# Altium footprint library EnvMonitor.PcbLib: 18 footprints (part 1 of 2)
Each footprint in its own frame and in the unit in brackets; x right, y up, seen from the top. Pads: shape width x height; smd on the part's side, far side on the other; paste and mask are expansions set on the pad; w line width, h text height; cw(c..) or ccw(c..) is an arc to the next point about the centre after c.
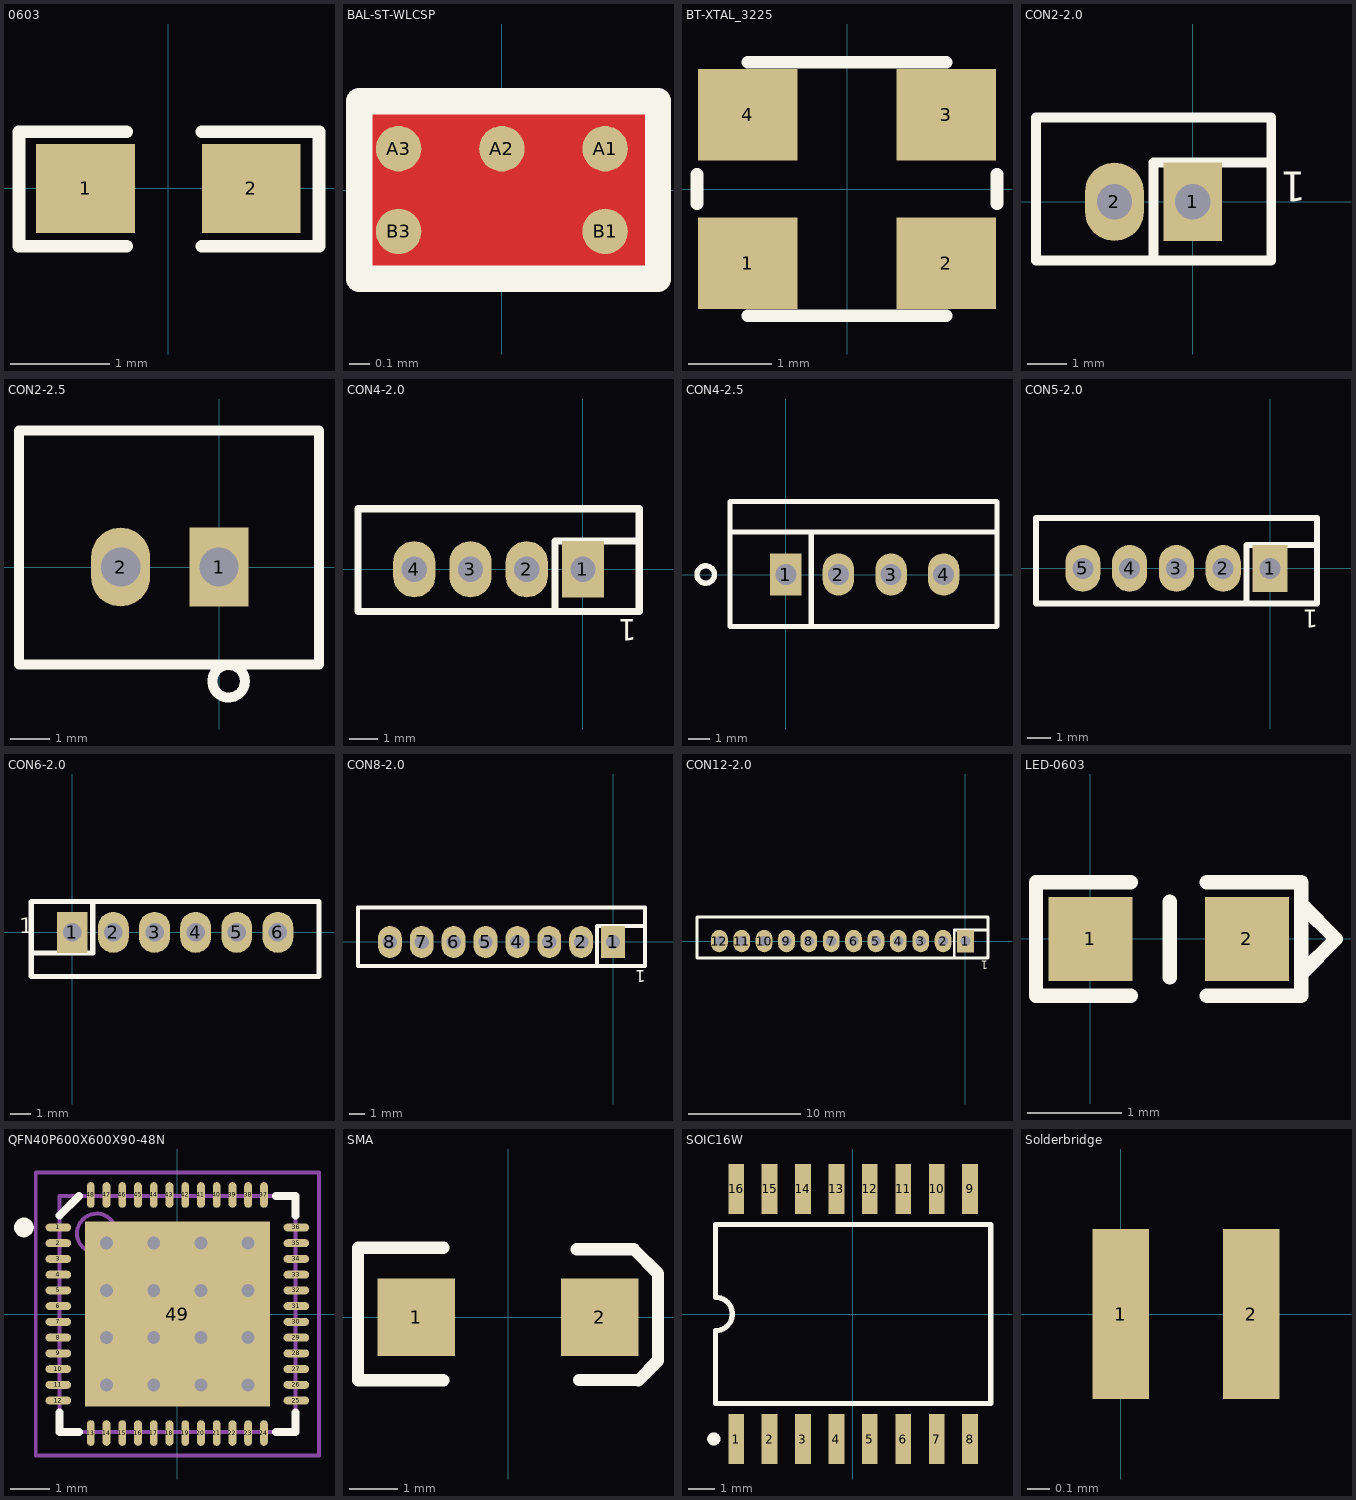
[diagram p0: the footprints below, top view; thin cyan lines are the x and y axes]

## 0603 [mm]
pads (2):
  rect 1x0.9 smd: 1(-0.838,0) 2(0.838,0)
Top Overlay:
  lines w0.127: -0.423,-0.584 -1.511,-0.584 -1.511,0.572 -0.423,0.572 ; 0.339,-0.584 1.524,-0.584 1.524,0.572 0.339,0.572
3D body: height 0.45, standoff 0, extent -0.825,-0.406 0.775,0.394

## BAL-ST-WLCSP [mm]
pads (5):
  round 0.22 smd mask+0.05: A1(0.5,0.2) A2(0,0.2) A3(-0.5,0.2) B1(0.5,-0.2) B3(-0.5,-0.2)
Top Layer:
  pour cut-out: -0.697,-0.43 0.756,-0.43 0.756,0.44 -0.697,0.44
Top Overlay:
  lines w0.127: -0.69,-0.43 0.756,-0.43 0.756,0.43 -0.69,0.43 -0.69,-0.43
3D body: height 0.17, standoff -0.05, extent 0.391,0.091 0.61,0.31
3D body: height 0.17, standoff -0.05, extent -0.609,-0.309 -0.39,-0.09
3D body: height 0.17, standoff -0.05, extent -0.609,0.091 -0.39,0.31
3D body: height 0.17, standoff -0.05, extent 0.391,-0.309 0.61,-0.09
3D body: height 0.17, standoff -0.05, extent -0.109,0.091 0.11,0.31
3D body: height 0.63, standoff 0.51, extent -0.703,-0.43 0.76,0.43
3D body: height 0.51, standoff 0.11, extent -0.69,-0.43 0.759,0.43

## BT-XTAL_3225 [mm] "Mercury X32 series"
height 1
pads (4):
  rect 1.2x1.1 smd: 1(-1.194,-0.89) 2(1.194,-0.89) 3(1.194,0.891) 4(-1.194,0.891)
Top Overlay:
  lines w0.152: -1.803,-0.178 -1.803,0.178 ; -1.194,-1.524 1.194,-1.524 ; -1.194,1.524 1.194,1.524 ; 1.803,-0.178 1.803,0.178
3D body: height 0.81, standoff 0, extent -1.6,-1.25 1.614,1.25
3D body: height 0.81, standoff 0.15, extent -1.4,-1.05 1.4,1.05

## CON2-2.0 [mm]
pads (2):
  rect 1.5x2 hole 0.9: 1(0,0)
  oval 1.5x2 hole 0.9: 2(-2,0)
Top Overlay:
  lines w0.254: -1,-1.5 -1,1 2,1 ; -4,-1.5 2,-1.5 2,2.15 -4,2.15 -4,-1.5
  text "1" at 2.89,0.768 h0.76
3D body: height 5.55, standoff -3.45, extent -4,-1.55 2,2.1

## CON2-2.5 [mm]
pads (2):
  rect 1.5x2 hole 1: 1(0,0)
  oval 1.5x2 hole 1: 2(-2.5,0)
Top Overlay:
  circle w0.254: c0.245,-2.9 r0.415
  lines w0.254: -5.08,-2.47 -5.08,3.47 2.54,3.47 2.54,-2.47 -5.08,-2.47

## CON4-2.0 [mm]
pads (4):
  rect 1.5x2 hole 0.9: 1(0,0)
  oval 1.5x2 hole 0.9: 2(-2,0) 3(-4,0) 4(-6,0)
Top Overlay:
  lines w0.254: -1,-1.5 -1,1 2,1 ; -8,-1.5 0.051,-1.5 2,-1.5 2,2.15 -8,2.15 -8,-1.5
  text "1" at 1.905,-1.778 h0.76
3D body: height 5.55, standoff -3.45, extent -8,-1.525 2,2.125

## CON4-2.5 [mm]
pads (4):
  rect 1.5x2 hole 1: 1(0,0)
  oval 1.5x2 hole 1: 2(2.5,0) 3(5,0) 4(7.5,0)
Top Overlay:
  circle w0.254: c-3.815,0 r0.415
  lines w0.254: -2.66,2.025 10.015,2.025 ; 1.2,-2.42 1.2,2.025 ; -2.66,-2.47 -2.66,3.47 10.04,3.47 10.04,-2.179 10.04,-2.47 -2.66,-2.47

## CON5-2.0 [mm]
pads (5):
  rect 1.5x2 hole 0.9: 1(0,0)
  oval 1.5x2 hole 0.9: 2(-2,0) 3(-4,0) 4(-6,0) 5(-8,0)
Top Overlay:
  lines w0.254: -1,-1.5 -1,1 2,1 ; -10,-1.5 2,-1.5 2,2.15 -10,2.15 -10,-1.5
  text "1" at 2.057,-1.778 h0.76
3D body: height 5.55, standoff -3.45, extent -10,-1.5 2,2.15

## CON6-2.0 [mm]
pads (6):
  rect 1.5x2 hole 0.9: 1(0,0)
  oval 1.5x2 hole 0.9: 2(2,0) 3(4,0) 4(6,0) 5(8,0) 6(10,0)
Top Overlay:
  lines w0.254: -2,-1 1,-1 1,1.5 ; -2,-2.15 12,-2.15 12,1.5 -2,1.5 -2,-2.15
  text "1" at -2.591,-0.051 h0.76
3D body: height 5.55, standoff -3.45, extent -2,-2.2 12,1.5

## CON8-2.0 [mm]
pads (8):
  rect 1.5x2 hole 0.9: 1(0,0)
  oval 1.5x2 hole 0.9: 2(-2,0) 3(-4,0) 4(-6,0) 5(-8,0) 6(-10,0) 7(-12,0) 8(-14,0)
Top Overlay:
  lines w0.254: -1,-1.5 -1,1 2,1 ; -16,-1.5 2,-1.5 2,2.15 -16,2.15 -16,-1.5
  text "1" at 2.057,-1.778 h0.76
3D body: height 5.55, standoff -3.45, extent -16,-1.45 2,2.2

## CON12-2.0 [mm]
pads (12):
  rect 1.5x2 hole 0.9: 1(0,0)
  oval 1.5x2 hole 0.9: 2(-2,0) 3(-4,0) 4(-6,0) 5(-8,0) 6(-10,0) 7(-12,0) 8(-14,0) 9(-16,0) 10(-18,0) 11(-20,0) 12(-22,0)
Top Overlay:
  lines w0.254: -1,-1.5 -1,1 2,1 ; -24,-1.5 2,-1.5 2,2.15 -24,2.15 -24,-1.5
  text "1" at 2.057,-1.778 h0.76
3D body: height 5.55, standoff -3.45, extent -24,-1.5 2,2.15

## LED-0603 [mil] "140705"
pads (2):
  rect 35x35 smd: 1(0,0) 2(65,0)
Top Overlay:
  lines w6: 16.75,-23.62 -22.62,-23.62 -22.62,23.62 16.75,23.62 ; 33,-16 33,15.5 ; 48.24,-23.62 87.61,-23.62 87.61,23.62 48.24,23.62 ; 88,-14 102,0 88,14

## QFN40P600X600X90-48N [mm] "QFN, 48-Leads, Body 6,0x6,0mm (max), Pitch 0,40mm, IPC Medium Density"
height 0.9
pads (49):
  oval 0.65x0.2 smd: 1(-3.025,2.2) 2(-3.025,1.8) 3(-3.025,1.4) 4(-3.025,1) 5(-3.025,0.6) 6(-3.025,0.2) 7(-3.025,-0.2) 8(-3.025,-0.6) 9(-3.025,-1) 10(-3.025,-1.4) 11(-3.025,-1.8) 12(-3.025,-2.2) 25(3.025,-2.2) 26(3.025,-1.8) 27(3.025,-1.4) 28(3.025,-1) 29(3.025,-0.6) 30(3.025,-0.2) 31(3.025,0.2) 32(3.025,0.6) 33(3.025,1) 34(3.025,1.4) 35(3.025,1.8) 36(3.025,2.2)
  oval 0.2x0.65 smd: 13(-2.2,-3.025) 14(-1.8,-3.025) 15(-1.4,-3.025) 16(-1,-3.025) 17(-0.6,-3.025) 18(-0.2,-3.025) 19(0.2,-3.025) 20(0.6,-3.025) 21(1,-3.025) 22(1.4,-3.025) 23(1.8,-3.025) 24(2.2,-3.025) 37(2.2,3.025) 38(1.8,3.025) 39(1.4,3.025) 40(1,3.025) 41(0.6,3.025) 42(0.2,3.025) 43(-0.2,3.025) 44(-0.6,3.025) 45(-1,3.025) 46(-1.4,3.025) 47(-1.8,3.025) 48(-2.2,3.025)
  rect 4.7x4.7 smd: 49(0,0)
via -1.8,1.8 diameter 0.66 hole 0.33
via -0.6,1.8 diameter 0.66 hole 0.33
via 0.6,1.8 diameter 0.66 hole 0.33
via 1.8,1.8 diameter 0.66 hole 0.33
via -1.8,0.6 diameter 0.66 hole 0.33
via -0.6,0.6 diameter 0.66 hole 0.33
via 0.6,0.6 diameter 0.66 hole 0.33
via 1.8,0.6 diameter 0.66 hole 0.33
via -1.8,-0.6 diameter 0.66 hole 0.33
via -0.6,-0.6 diameter 0.66 hole 0.33
via 0.6,-0.6 diameter 0.66 hole 0.33
via 1.8,-0.6 diameter 0.66 hole 0.33
via -1.8,-1.8 diameter 0.66 hole 0.33
via -0.6,-1.8 diameter 0.66 hole 0.33
via 0.6,-1.8 diameter 0.66 hole 0.33
via 1.8,-1.8 diameter 0.66 hole 0.33
Top Overlay:
  circle w0.25: c-3.9,2.2 r0.125
  lines w0.2: -3,-2.5 -3,-3 -2.5,-3 ; -3,2.5 -2.5,3 ; 2.5,-3 3,-3 3,-2.5 ; 2.5,3 3,3 3,2.5
Mechanical 13:
  circle w0.1: c-2.05,2.05 r0.5
  lines w0.1: -3,-3 -3,3 3,3 3,-3 -3,-3
Mechanical 15:
  lines w0.1: -0.5,0 0.5,0 ; 0,-0.5 0,0.5 ; -3.6,-3.6 -3.6,3.6 3.6,3.6 3.6,-3.6 -3.6,-3.6
3D body: height 0.9, standoff 0, extent -3,-3 3,3

## SMA [mm]
pads (2):
  rect 1.6x1.6 smd: 1(-1.9,0) 2(1.9,0)
Top Overlay:
  lines w0.254: -1.332,-1.308 -3.1,-1.308 -3.1,1.435 -1.332,1.435 ; 1.42,1.4 2.6,1.4 3.1,0.9 3.1,-0.9 2.694,-1.306 ; 1.469,-1.3 2.7,-1.3
3D body: height 2.4, standoff 0, extent -2.287,-1.27 2.313,1.43

## SOIC16W [mm]
height 1.1
pads (16):
  rect 0.6x1.9 smd: 1(-4.431,-4.741) 2(-3.161,-4.741) 3(-1.891,-4.741) 4(-0.621,-4.741) 5(0.649,-4.741) 6(1.919,-4.741) 7(3.189,-4.741) 8(4.459,-4.741) 9(4.459,4.759) 10(3.189,4.759) 11(1.919,4.759) 12(0.649,4.759) 13(-0.621,4.759) 14(-1.891,4.759) 15(-3.161,4.759) 16(-4.431,4.759)
Top Overlay:
  circle w0.25: c-5.281,-4.741 r0.125
  lines w0.2: -5.211,-3.391 5.239,-3.391 5.239,3.409 -5.211,3.409 -5.211,0.644 cw(c-5.211,0.009) -5.211,-0.626 -5.211,-3.391

## Solderbridge [mil]
pads (2):
  rect 10x30 smd paste-393.7: 1(0,0) 2(23,0)